# Altium integrated library Header_3.IntLib: 1 symbol
Pins are listed as number, name and electrical type; pins without a type are passive.

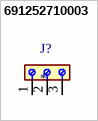
[diagram p0: symbol 691252710003]

## 691252710003
designator J?
5.00 MM TERMINAL BLOCK;; MF: WÃ¼rth Elektronik; MP: 691252710003; SnapEDA_Link: https://www.snapeda.com/parts/691252710003/W%25C3%25BCrth+Elektronik+Midcom/view-part/?ref=snap; Package: None; Value: *; Check_prices: https://www.snapeda.com/parts/691252710003/W%25C3%25BCrth+Elektronik+Midcom/view-part/?ref=eda
footprint 691252710003
pins: 1, 2, 3